# Altium footprint library tyco-power.PcbLib: 1 footprints
Each footprint in its own frame and in the unit in brackets; x right, y up, seen from the top. Pads: shape width x height; smd on the part's side, far side on the other; paste and mask are expansions set on the pad; w line width, h text height; cw(c..) or ccw(c..) is an arc to the next point about the centre after c.
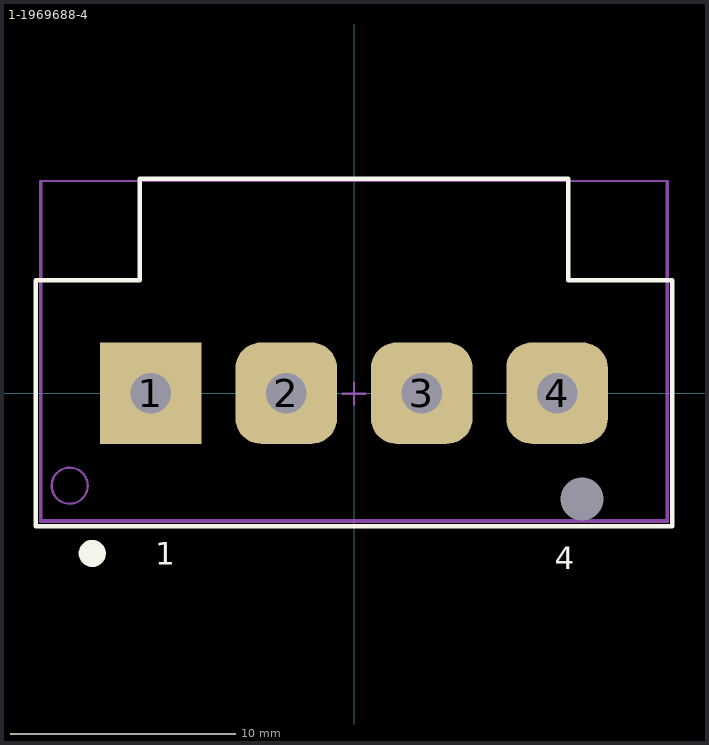
[diagram p0: the footprint, top view; thin cyan lines are the x and y axes]

## 1-1969688-4 [mm] "4pos, 6.0mm Wire to Board Connector, Header,  Vertical"
height 17.3
pads (5):
  round 0 hole 1.9 unplated: 0(10.1,-4.69)
  rect 4.5x4.5 hole 1.8: 1(-9,0)
  rrect50% 4.5x4.5 hole 1.8: 2(-3,0) 3(3,0) 4(9,0)
Top Overlay:
  circle w0.6: c-11.6,-7.1 r0.3
  lines w0.2: -14.1,-5.9 14.1,-5.9 14.1,5 9.5,5 9.5,9.5 -9.5,9.5 -9.5,5 -14.1,5 -14.1,-5.9
  text "4" at 8.9,-7.8 h1
  text "1" at -8.8,-7.6 h1
Mechanical 13:
  lines w0.1: -0.5,-0.025 0.5,-0.025 ; 0,-0.525 0,0.475 ; -13.85,-5.625 -13.85,9.4 13.85,9.4 13.85,-5.625 -13.85,-5.625
Mechanical 15:
  circle w0.1: c-12.6,-4.1 r0.8
  lines w0.1: -13.9,-5.7 -13.9,9.4 13.9,9.4 13.9,-5.7 -13.9,-5.7
  text ".Designator" at -2.3,-1.5 h0.5
3D body "c-1-1969688-4-a-3d.stp": height 18.31, standoff -3.32, extent -13.85,-5.625 13.85,9.325